# Altium schematic symbol library SCH - DRIVER - LOAD - ST ST890CDR.SCHLIB: 1 symbol
Pins are listed as number, name and electrical type; pins without a type are passive.

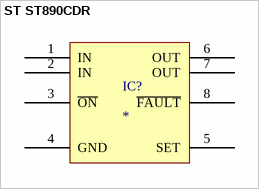
[diagram p0: symbol ST ST890CDR]

## ST ST890CDR
designator IC?
pins: 1 IN, 2 IN, 3 ~{ON}, 4 GND, 5 SET, 6 OUT, 7 OUT, 8 ~{FAULT}